# Altium schematic symbol library EwgConnectors.SchLib: 78 symbols
Pins are listed as number, name and electrical type; pins without a type are passive.

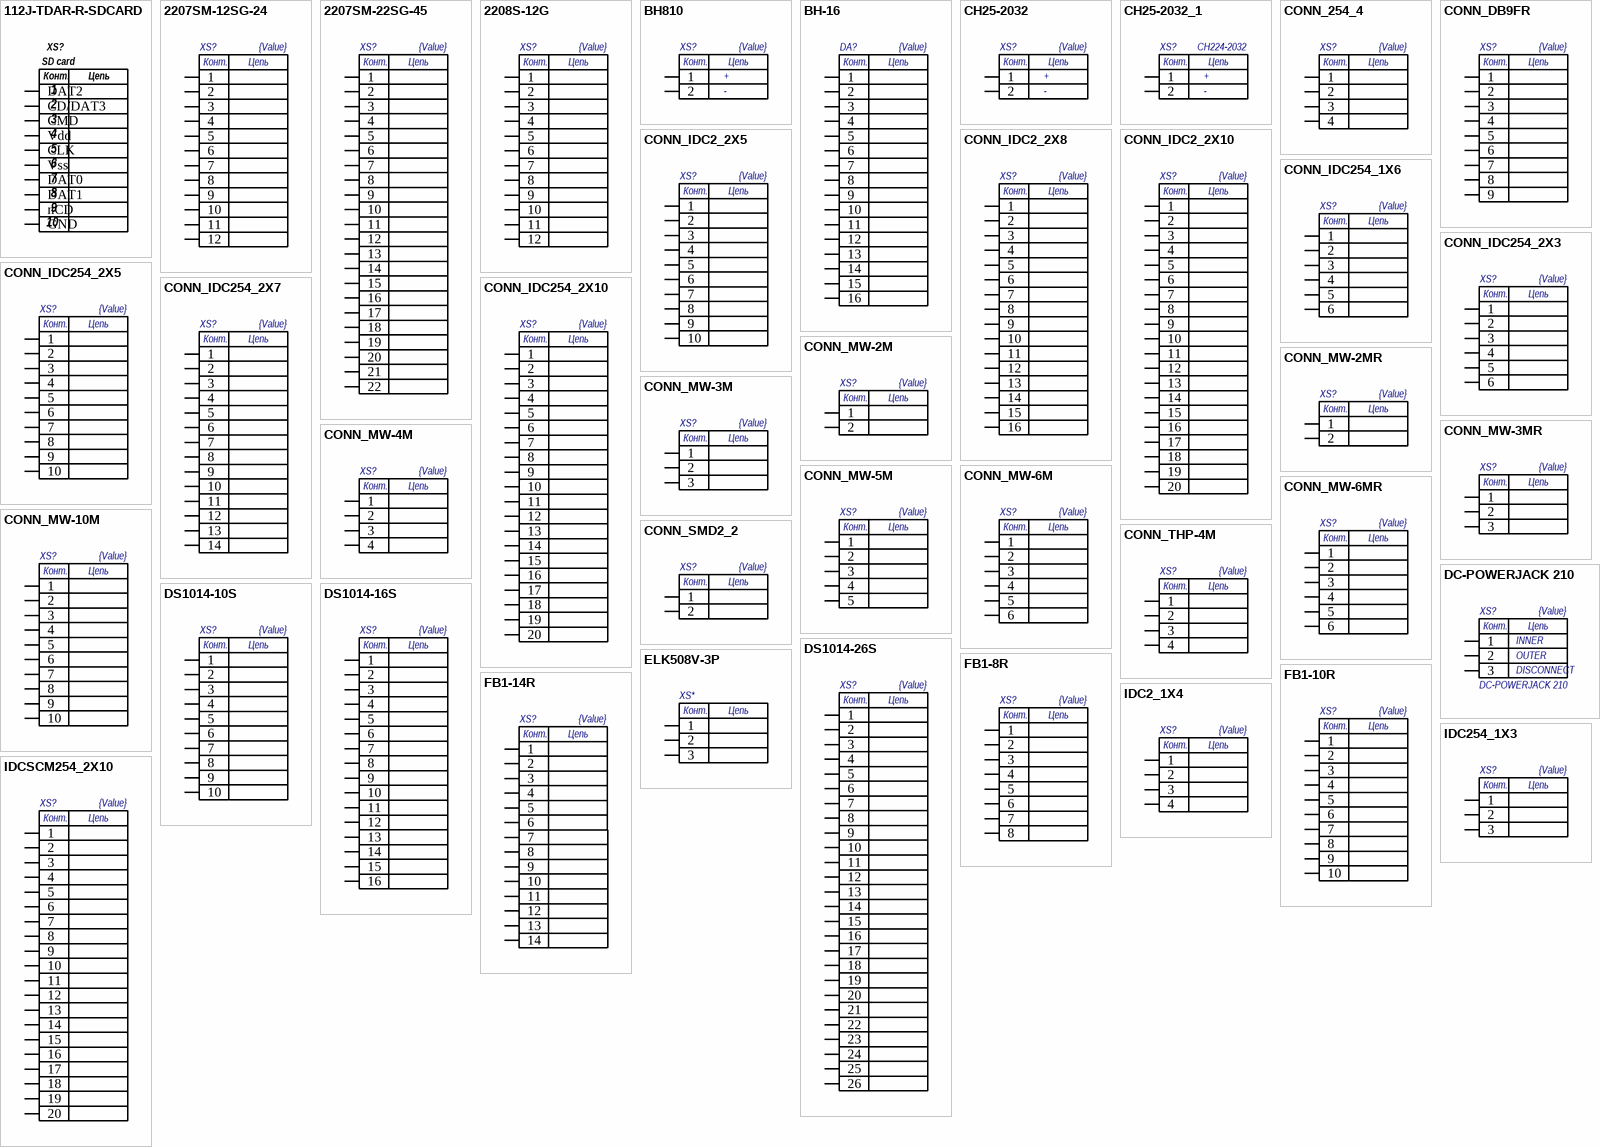
[diagram p0: symbols 112J-TDAR-R-SDCARD to IDCSCM254_2X10]

## 112J-TDAR-R-SDCARD
designator XS?, comment SD card
Слот MMC; Наименование: 112J-TDAR-R-SDCARD; Тип монтажа: Поверхностный; Тип компонента: Слот MMC
footprint 112J-TDAR-R-SDCARD
pins: 1 DAT2, 2 CD/DAT3, 3 CMD, 4 Vdd, 5 CLK, 6 Vss, 7 DAT0, 8 DAT1, 9 nCD, 10 GND
text: Конт.; Цепь

## 2207SM-12SG-24
designator XS?  value {Value}  (hidden comment: *)
Разъем; Наименование: 2207SM-12SG-24; Тип корпуса: шаг 2 мм; Тип монтажа: Поверхностный; Тип компонента: Разъем
footprint 2207SM-12SG-24-REVERSE
pins: 1, 2, 3, 4, 5, 6, 7, 8, 9, 10, 11, 12
text: Конт.; Цепь

## 2207SM-22SG-45
designator XS?  value {Value}  (hidden comment: *)
Разъем; Наименование: 2207SM-22SG-45; Тип корпуса: шаг 2 мм; Тип монтажа: Поверхностный; Тип компонента: Разъем
footprint 2207SM-22SG-45
pins: 1, 2, 3, 4, 5, 6, 7, 8, 9, 10, 11, 12, 13, 14, 15, 16, 17, 18, 19, 20, 21, 22
text: Конт.; Цепь

## 2208S-12G
designator XS?  value {Value}  (hidden comment: *)
Разъем; Наименование: PLD2-2X6; Тип корпуса: шаг 2 мм; Тип монтажа: Штыревой; Тип компонента: Разъем
footprint PLD2-2X6
pins: 1, 2, 3, 4, 5, 6, 7, 8, 9, 10, 11, 12
text: Конт.; Цепь

## BH810
designator XS?  value {Value}  (hidden comment: *)
Разъем; Наименование: BH810; Тип монтажа: Штыревой; Тип компонента: Разъем
footprint BH810
pins: 1, 2
text: Конт.; Цепь; +; -

## BH-16
designator DA?  value {Value}  (hidden comment: *)
Разъем; Наименование: BH-16; Тип монтажа: Штыревой; Тип компонента: Разъем
footprint BH-16
pins: 1, 2, 3, 4, 5, 6, 7, 8, 9, 10, 11, 12, 13, 14, 15, 16
text: Конт.; Цепь

## CH25-2032
designator XS?  value {Value}  (hidden comment: *)
Разъем; Наименование: CH25-2032; Тип монтажа: Штыревой; Тип компонента: Разъем
footprint CH25-2032
pins: 1, 2
text: Конт.; Цепь; +; -

## CH25-2032_1
designator XS?  value CH224-2032  (hidden comment: *)
Разъем; Наименование: Comfortable Electronic, CH224-2032; Примечание: Элемент 2032; Тип монтажа: Штыревой; Тип компонента: Разъем
footprint CH25-2032
pins: 1, 2
text: Конт.; Цепь; +; -

## CONN_254_4
designator XS?  value {Value}  (hidden comment: *)
Разъем; Наименование: 254_4; Тип монтажа: Штыревой; Тип компонента: Разъем
footprint 254_4
pins: 1, 2, 3, 4
text: Конт.; Цепь

## CONN_DB9FR
designator XS?  value {Value}  (hidden comment: *)
Разъем; Наименование: DB9RF; Тип монтажа: Штыревой; Тип компонента: Разъем
footprint CONN_DB9RF
pins: 1, 2, 3, 4, 5, 6, 7, 8, 9
text: Конт.; Цепь

## CONN_IDC2_2X5
designator XS?  value {Value}  (hidden comment: *)
Разъем; Наименование: PLD2-2X5; Тип корпуса: шаг 2 мм; Тип монтажа: Штыревой; Тип компонента: Разъем
footprint PLD2-2X5
pins: 1, 2, 3, 4, 5, 6, 7, 8, 9, 10
text: Конт.; Цепь

## CONN_IDC2_2X8
designator XS?  value {Value}  (hidden comment: *)
Разъем; Наименование: PLD2-2X8; Тип корпуса: шаг 2 мм; Тип монтажа: Штыревой; Тип компонента: Разъем
footprint PLD2-2X8
pins: 1, 2, 3, 4, 5, 6, 7, 8, 9, 10, 11, 12, 13, 14, 15, 16
text: Конт.; Цепь

## CONN_IDC2_2X10
designator XS?  value {Value}  (hidden comment: *)
Разъем; Наименование: PLD2-2X10; Тип корпуса: шаг 2 мм; Тип монтажа: Штыревой; Тип компонента: Разъем
footprint PLD2-2X10
pins: 1, 2, 3, 4, 5, 6, 7, 8, 9, 10, 11, 12, 13, 14, 15, 16, 17, 18, 19, 20
text: Конт.; Цепь

## CONN_IDC254_1X6
designator XS?  value {Value}  (hidden comment: *)
Разъем; Наименование: IDC254_1X6; Тип корпуса: шаг 2,54 мм; Тип монтажа: Штыревой; Тип компонента: Разъем
footprint IDC254_1X6
pins: 1, 2, 3, 4, 5, 6
text: Конт.; Цепь

## CONN_IDC254_2X3
designator XS?  value {Value}  (hidden comment: *)
Разъем; Наименование: IDC254_2X3; Тип корпуса: шаг 2,54 мм; Тип монтажа: Штыревой; Тип компонента: Разъем
footprint IDC254_2X3
pins: 1, 2, 3, 4, 5, 6
text: Конт.; Цепь

## CONN_IDC254_2X5
designator XS?  value {Value}  (hidden comment: *)
Разъем; Наименование: IDC254_2X5; Тип корпуса: шаг 2,54 мм; Тип монтажа: Штыревой; Тип компонента: Разъем
footprint IDC254_2X5
pins: 1, 2, 3, 4, 5, 6, 7, 8, 9, 10
text: Конт.; Цепь

## CONN_IDC254_2X7
designator XS?  value {Value}  (hidden comment: *)
Разъем; Наименование: IDC254_2X7; Тип корпуса: шаг 2,54 мм; Тип монтажа: Штыревой; Тип компонента: Разъем
footprint IDC254_2X7
pins: 1, 2, 3, 4, 5, 6, 7, 8, 9, 10, 11, 12, 13, 14
text: Конт.; Цепь

## CONN_IDC254_2X10
designator XS?  value {Value}  (hidden comment: *)
Разъем; Наименование: IDC254_2X10; Тип корпуса: шаг 2,54 мм; Тип монтажа: Штыревой; Тип компонента: Разъем
footprint IDC254_2X10
pins: 1, 2, 3, 4, 5, 6, 7, 8, 9, 10, 11, 12, 13, 14, 15, 16, 17, 18, 19, 20
text: Конт.; Цепь

## CONN_MW-2M
designator XS?  value {Value}  (hidden comment: *)
Разъем; Наименование: MW-2M; Тип корпуса: шаг 2 мм; Тип монтажа: Штыревой; Тип компонента: Разъем
footprint MW-2M
pins: 1, 2
text: Конт.; Цепь

## CONN_MW-2MR
designator XS?  value {Value}  (hidden comment: *)
Разъем; Наименование: MW-2MR; Тип корпуса: шаг 2 мм; Тип монтажа: Штыревой; Тип компонента: Разъем
footprint MW-2MR
pins: 1, 2
text: Конт.; Цепь

## CONN_MW-3M
designator XS?  value {Value}  (hidden comment: *)
Разъем; Наименование: MW-3M; Тип корпуса: шаг 2 мм; Тип монтажа: Штыревой; Тип компонента: Разъем
footprint MW-3M
pins: 1, 2, 3
text: Конт.; Цепь

## CONN_MW-3MR
designator XS?  value {Value}  (hidden comment: *)
Разъем; Наименование: MW-3MR; Тип корпуса: шаг 2 мм; Тип монтажа: Штыревой; Тип компонента: Разъем
footprint MW-3MR
pins: 1, 2, 3
text: Конт.; Цепь

## CONN_MW-4M
designator XS?  value {Value}  (hidden comment: *)
Разъем; Наименование: MW-4M; Тип корпуса: шаг 2 мм; Тип монтажа: Штыревой; Тип компонента: Разъем
footprint MW-4M
footprint MW-4M FULL
pins: 1, 2, 3, 4
text: Конт.; Цепь

## CONN_MW-5M
designator XS?  value {Value}  (hidden comment: *)
Разъем; Наименование: MW-5M; Тип корпуса: шаг 2 мм; Тип монтажа: Штыревой; Тип компонента: Разъем
footprint MW-5M
footprint MW-5M FULL
pins: 1, 2, 3, 4, 5
text: Конт.; Цепь

## CONN_MW-6M
designator XS?  value {Value}  (hidden comment: *)
Разъем; Наименование: MW-6M; Тип корпуса: шаг 2 мм; Тип монтажа: Штыревой; Тип компонента: Разъем
footprint MW-6M
pins: 1, 2, 3, 4, 5, 6
text: Конт.; Цепь

## CONN_MW-6MR
designator XS?  value {Value}  (hidden comment: *)
Разъем; Наименование: MW-6MR; Тип корпуса: шаг 2 мм; Тип монтажа: Штыревой; Тип компонента: Разъем
footprint MW-6MR
pins: 1, 2, 3, 4, 5, 6
text: Конт.; Цепь

## CONN_MW-10M
designator XS?  value {Value}  (hidden comment: *)
Разъем; Наименование: MW-10M; Тип корпуса: шаг 2 мм; Тип монтажа: Штыревой; Тип компонента: Разъем
footprint MW-10M
pins: 1, 2, 3, 4, 5, 6, 7, 8, 9, 10
text: Конт.; Цепь

## CONN_SMD2_2
designator XS?  value {Value}  (hidden comment: *)
Разъем; Наименование: SMD2_2; Тип корпуса: шаг 2 мм; Тип монтажа: Поверхностный; Тип компонента: Разъем
footprint SMD2_2
pins: 1, 2
text: Конт.; Цепь

## CONN_THP-4M
designator XS?  value {Value}  (hidden comment: *)
Разъем; Наименование: THP-4M; Тип корпуса: шаг 5.08 мм; Тип монтажа: Штыревой; Тип компонента: Разъем
footprint PWR CONN 5.08
pins: 1, 2, 3, 4
text: Конт.; Цепь

## DC-POWERJACK 210
designator XS?, comment {Value}
Разъем; Наименование: DC-POWERJACK 210; Тип корпуса: шаг 2 мм; Тип монтажа: Штыревой; Тип компонента: Разъем; Value: {Value}
footprint DC-POWERJACK 210
pins: 1, 2, 3
text: Конт.; Цепь; INNER; OUTER; DISCONNECT

## DS1014-10S
designator XS?  value {Value}  (hidden comment: *)
Разъем; Наименование: DS1014-10S; Тип корпуса: шаг 2 мм; Тип монтажа: Штыревой; Тип компонента: Разъем
footprint DS1014-10S
pins: 1, 2, 3, 4, 5, 6, 7, 8, 9, 10
text: Конт.; Цепь

## DS1014-16S
designator XS?  value {Value}  (hidden comment: *)
Разъем; Наименование: DS1014-16S; Тип корпуса: шаг 2 мм; Тип монтажа: Штыревой; Тип компонента: Разъем
footprint DS1014-16S
pins: 1, 2, 3, 4, 5, 6, 7, 8, 9, 10, 11, 12, 13, 14, 15, 16
text: Конт.; Цепь

## DS1014-26S
designator XS?  value {Value}  (hidden comment: *)
Разъем; Наименование: DS1014-26S; Тип корпуса: шаг 2 мм; Тип монтажа: Штыревой; Тип компонента: Разъем
footprint DS1014-26S
pins: 1, 2, 3, 4, 5, 6, 7, 8, 9, 10, 11, 12, 13, 14, 15, 16, 17, 18, 19, 20, 21, 22, 23, 24, 25, 26
text: Конт.; Цепь

## ELK508V-3P
designator XS*  (value not drawn)
Клеммник 3х; Наименование: ELK508V-3P; Тип корпуса: шаг 5.08 мм; Тип монтажа: Штыревой; Value: {Value}; Тип компонента: Клеммник 3х
footprint ELK508V-3P (Клеммник)
pins: 1, 2, 3
text: Конт.; Цепь

## FB1-8R
designator XS?  value {Value}  (hidden comment: *)
Разъем; Наименование: FB1-8R; Тип монтажа: Штыревой; Тип компонента: Разъем
footprint FB1-8R
pins: 1, 2, 3, 4, 5, 6, 7, 8
text: Конт.; Цепь

## FB1-10R
designator XS?  value {Value}  (hidden comment: *)
FB1-10R
footprint FB1-10R
pins: 1, 2, 3, 4, 5, 6, 7, 8, 9, 10
text: Конт.; Цепь

## FB1-14R
designator XS?  value {Value}  (hidden comment: *)
FB1-14R
footprint FB1-14R
pins: 1, 2, 3, 4, 5, 6, 7, 8, 9, 10, 11, 12, 13, 14
text: Конт.; Цепь

## IDC2_1X4
designator XS?  value {Value}  (hidden comment: *)
Разъем; Наименование: IDC2_1X4; Тип корпуса: шаг 2 мм; Тип монтажа: Штыревой; Тип компонента: Разъем
footprint IDC2_1X4
pins: 1, 2, 3, 4
text: Конт.; Цепь

## IDC254_1X3
designator XS?  value {Value}  (hidden comment: *)
Разъем; Наименование: IDC254_1X3; Тип корпуса: шаг 2,54 мм; Тип монтажа: Штыревой; Тип компонента: Разъем
footprint IDC254_1X3
pins: 1, 2, 3
text: Конт.; Цепь

## IDCSCM254_2X10
designator XS?  value {Value}  (hidden comment: *)
Разъем; Наименование: IDCSCM254_2X10; Тип корпуса: шаг 2,54 мм; Тип монтажа: Штыревой; Тип компонента: Разъем
footprint IDCSCM254_2X10
pins: 1, 2, 3, 4, 5, 6, 7, 8, 9, 10, 11, 12, 13, 14, 15, 16, 17, 18, 19, 20
text: Конт.; Цепь

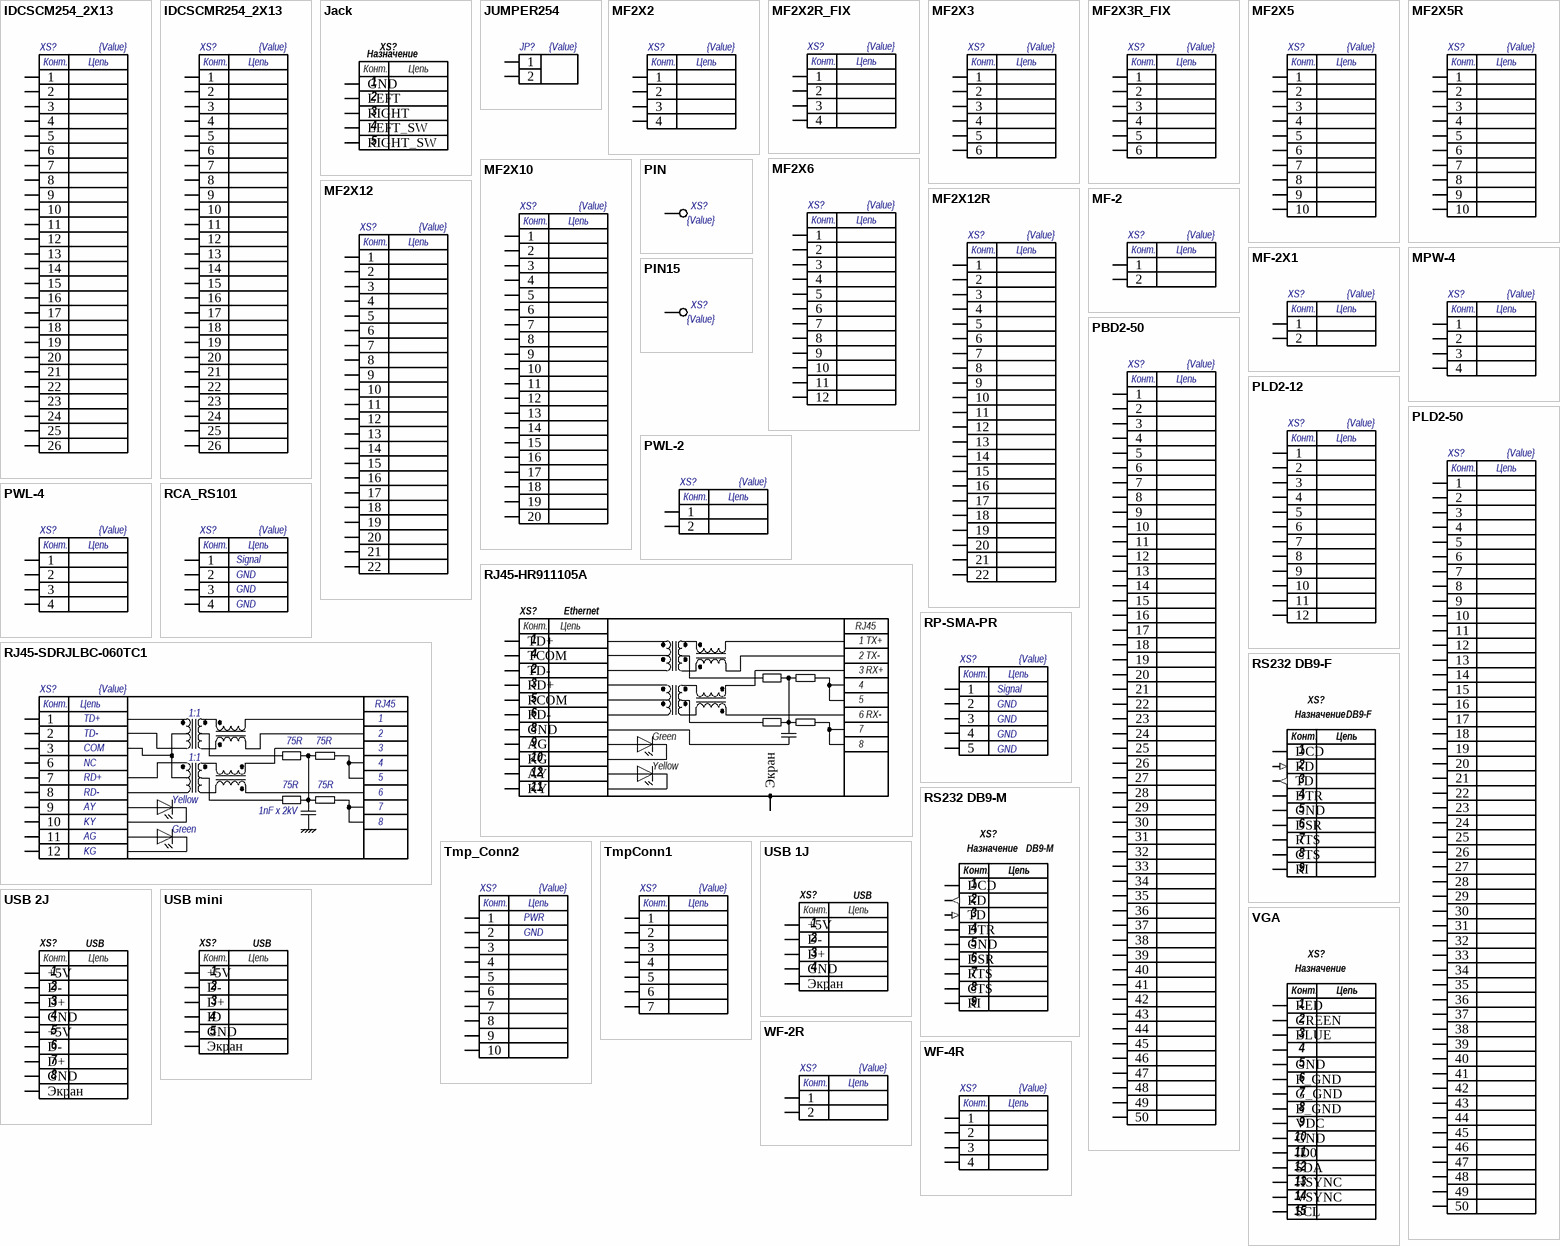
[diagram p1: symbols IDCSCM254_2X13 to WF-4R]

## IDCSCM254_2X13
designator XS?  value {Value}  (hidden comment: *)
Разъем; Наименование: IDCSCM254_2X13; Тип корпуса: шаг 2,54 мм; Тип монтажа: Штыревой; Тип компонента: Разъем
footprint IDCSCM254_2X13
pins: 1, 2, 3, 4, 5, 6, 7, 8, 9, 10, 11, 12, 13, 14, 15, 16, 17, 18, 19, 20, 21, 22, 23, 24, 25, 26
text: Конт.; Цепь

## IDCSCMR254_2X13
designator XS?  value {Value}  (hidden comment: *)
Разъем; Наименование: IDCSCMR254_2X13; Тип корпуса: шаг 2,54 мм; Тип монтажа: Штыревой; Тип компонента: Разъем
footprint IDCSCMR254_2X13
pins: 1, 2, 3, 4, 5, 6, 7, 8, 9, 10, 11, 12, 13, 14, 15, 16, 17, 18, 19, 20, 21, 22, 23, 24, 25, 26
text: Конт.; Цепь

## Jack
designator XS?, comment Назначение
Разъем
footprint Jack 3.5
pins: 1 GND, 2 LEFT, 3 RIGHT, 4 LEFT_SW, 5 RIGHT_SW
text: Конт.; Цепь

## JUMPER254
designator JP?  value {Value}  (hidden comment: *)
Разъем; Наименование: IDC254_1X2; Тип корпуса: шаг 2,54 мм; Тип монтажа: Штыревой; Тип компонента: Разъем
footprint IDC254_1X2
pins: 1, 2

## MF2X2
designator XS?  value {Value}  (hidden comment: *)
Разъем; Наименование: MiniFit 2X2; Тип корпуса: шаг 4,2 мм; Тип монтажа: Штыревой; Тип компонента: Разъем
footprint MF2X2
footprint MF2X2-Full
pins: 1, 2, 3, 4
text: Конт.; Цепь

## MF2X2R_FIX
designator XS?  value {Value}  (hidden comment: *)
Разъем; Наименование: MiniFit R_FIX; Тип корпуса: шаг 4,2 мм; Тип монтажа: Штыревой; Тип компонента: Разъем
footprint MF2X2R_FIX
pins: 1, 2, 3, 4
text: Конт.; Цепь

## MF2X3
designator XS?  value {Value}  (hidden comment: *)
Разъем; Наименование: MiniFit 2X3; Тип корпуса: шаг 4,2 мм; Тип монтажа: Штыревой; Тип компонента: Разъем
footprint MF2X3
pins: 1, 2, 3, 4, 5, 6
text: Конт.; Цепь

## MF2X3R_FIX
designator XS?  value {Value}  (hidden comment: *)
Разъем; Наименование: MiniFit 2X3R_FIX; Тип корпуса: шаг 4,2 мм; Тип монтажа: Штыревой; Тип компонента: Разъем
footprint MF2X3R_FIX
footprint MF2X3R_FIX FULL
pins: 1, 2, 3, 4, 5, 6
text: Конт.; Цепь

## MF2X5
designator XS?  value {Value}  (hidden comment: *)
Разъем; Наименование: MiniFit 2X5; Тип корпуса: шаг 4,2 мм; Тип монтажа: Штыревой; Тип компонента: Разъем
footprint MF2X5
pins: 1, 2, 3, 4, 5, 6, 7, 8, 9, 10
text: Конт.; Цепь

## MF2X5R
designator XS?  value {Value}  (hidden comment: *)
Разъем; Наименование: MiniFit 2X5R; Тип корпуса: шаг 4,2 мм; Тип монтажа: Штыревой; Тип компонента: Разъем
footprint MF2X5R
pins: 1, 2, 3, 4, 5, 6, 7, 8, 9, 10
text: Конт.; Цепь

## MF2X6
designator XS?  value {Value}  (hidden comment: *)
Разъем; Наименование: MiniFit 2X6; Тип корпуса: шаг 4,2 мм; Тип монтажа: Штыревой; Тип компонента: Разъем
footprint MF2X6
pins: 1, 2, 3, 4, 5, 6, 7, 8, 9, 10, 11, 12
text: Конт.; Цепь

## MF2X10
designator XS?  value {Value}  (hidden comment: *)
Разъем; Наименование: MiniFit 2X10; Тип корпуса: шаг 4,2 мм; Тип монтажа: Штыревой; Тип компонента: Разъем
footprint MF2X10
pins: 1, 2, 3, 4, 5, 6, 7, 8, 9, 10, 11, 12, 13, 14, 15, 16, 17, 18, 19, 20
text: Конт.; Цепь

## MF2X12
designator XS?  value {Value}  (hidden comment: *)
Разъем; Наименование: MiniFit 2X12; Тип корпуса: шаг 4,2 мм; Тип монтажа: Штыревой; Тип компонента: Разъем
footprint MF2X12
pins: 1, 2, 3, 4, 5, 6, 7, 8, 9, 10, 11, 12, 13, 14, 15, 16, 17, 18, 19, 20, 21, 22
text: Конт.; Цепь

## MF2X12R
designator XS?  value {Value}  (hidden comment: *)
Разъем; Наименование: MiniFit 2X12R; Тип корпуса: шаг 4,2 мм; Тип монтажа: Штыревой; Тип компонента: Разъем
footprint MF2X12R
pins: 1, 2, 3, 4, 5, 6, 7, 8, 9, 10, 11, 12, 13, 14, 15, 16, 17, 18, 19, 20, 21, 22
text: Конт.; Цепь

## MF-2
designator XS?  value {Value}  (hidden comment: *)
Разъем; Наименование: MF-2; Тип монтажа: Штыревой; Тип компонента: Разъем
footprint MF-2
pins: 1, 2
text: Конт.; Цепь

## MF-2X1
designator XS?  value {Value}  (hidden comment: *)
Разъем; Наименование: MiniFit -2X1; Тип корпуса: шаг 4,2 мм; Тип монтажа: Штыревой; Тип компонента: Разъем
footprint MF-2X1
pins: 1, 2
text: Конт.; Цепь

## MPW-4
designator XS?  value {Value}  (hidden comment: *)
Разъем; Наименование: MPW-4; Тип монтажа: Штыревой; Тип компонента: Разъем
footprint MPW-4
pins: 1, 2, 3, 4
text: Конт.; Цепь

## PBD2-50
designator XS?  value {Value}  (hidden comment: *)
Разъем; Наименование: PBD2-50; Тип монтажа: Штыревой; Тип компонента: Разъем
footprint PBD2-50 (PLD2-50)
pins: 1, 2, 3, 4, 5, 6, 7, 8, 9, 10, 11, 12, 13, 14, 15, 16, 17, 18, 19, 20, 21, 22, 23, 24, 25, 26, 27, 28, 29, 30, 31, 32, 33, 34, 35, 36, 37, 38, 39, 40, 41, 42, 43, 44, 45, 46, 47, 48, 49, 50
text: Конт.; Цепь

## PIN
designator XS?  value {Value}  (hidden comment: *)
Наименование: PIN; Тип монтажа: Штыревой
footprint PIN
pins: 1

## PIN15
designator XS?  value {Value}  (hidden comment: *)
Наименование: PIN15; Тип монтажа: Штыревой
footprint PIN15
pins: 1

## PLD2-12
designator XS?  value {Value}  (hidden comment: *)
Разъем; Наименование: PLD2-12; Тип корпуса: шаг 4,2 мм; Тип монтажа: Штыревой; Тип компонента: Разъем
footprint PLD2-2X6
pins: 1, 2, 3, 4, 5, 6, 7, 8, 9, 10, 11, 12
text: Конт.; Цепь

## PLD2-50
designator XS?  value {Value}  (hidden comment: *)
Разъем; Наименование: PLD2-50; Тип монтажа: Штыревой; Тип компонента: Разъем
footprint PLD2-50
pins: 1, 2, 3, 4, 5, 6, 7, 8, 9, 10, 11, 12, 13, 14, 15, 16, 17, 18, 19, 20, 21, 22, 23, 24, 25, 26, 27, 28, 29, 30, 31, 32, 33, 34, 35, 36, 37, 38, 39, 40, 41, 42, 43, 44, 45, 46, 47, 48, 49, 50
text: Конт.; Цепь

## PWL-2
designator XS?  value {Value}  (hidden comment: *)
Разъем; Наименование: PWL-2; Тип монтажа: Штыревой; Тип компонента: Разъем
footprint PWL-2
pins: 1, 2
text: Конт.; Цепь

## PWL-4
designator XS?  value {Value}  (hidden comment: *)
Разъем; Наименование: PWL-4; Тип монтажа: Штыревой; Тип компонента: Разъем
footprint PWL-4
pins: 1, 2, 3, 4
text: Конт.; Цепь

## RCA_RS101
designator XS?  value {Value}  (hidden comment: *)
Разъем; Наименование: RCA RS101; Тип монтажа: Штыревой; Тип компонента: Разъем
footprint RCA RS101
pins: 1, 2, 3, 4
text: Конт.; Цепь; Signal; GND

## RJ45-HR911105A
designator XS?, comment Ethernet
Разъем RJ45 с трансформатором и LED; Наименование: HR911105A; Производитель: Hanrun; Тип монтажа: Штыревой; Тип компонента: Разъем RJ45 с трансформатором и LED
footprint HR911105A
pins: 0 Экран, 1 TD+, 2 TD-, 3 RD+, 4 TCOM, 5 RCOM, 6 RD-, 8 GND, 9 AG, 10 KG, 11 KY, 12 AY
text: Конт.; Цепь; RJ45; 1 TX+; 2 TX-; 3 RX+; 6 RX-; 7; Green; Yellow

## RJ45-SDRJLBC-060TC1
designator XS?  value {Value}  (hidden comment: *)
Разъем; Наименование: JAIMAG, SDRJLBC-060TC1; Тип монтажа: Штыревой; Тип компонента: Разъем
footprint RJLBC-060TC1
pins: 1, 2, 3, 6, 7, 8, 9, 10, 11, 12
text: Конт.; Цепь; RJ45; 1:1; TD+; TD-; 75R; COM; NC; 4; RD+; 5; RD-; Yellow; AY; 1nF x 2kV; KY; Green; AG; KG

## RP-SMA-PR
designator XS?  value {Value}  (hidden comment: *)
Разъем; Наименование: RP-SMA; Тип монтажа: Штыревой; Тип компонента: Разъем
footprint RP-SMA
pins: 1, 2, 3, 4, 5
text: Конт.; Цепь; Signal; GND

## RS232 DB9-F
designator XS?, comment Назначение  Тип корпуса: DB9-F
Разъем RS232
footprint DB9-F
pins: 1 DCD, 2 RD (in), 3 TD (out), 4 DTR, 5 GND, 6 DSR, 7 RTS, 8 CTS, 9 RI
text: Конт.; Цепь

## RS232 DB9-M
designator XS?, comment Назначение  Тип корпуса: DB9-M
Разъем RS232
footprint DB9-M
pins: 1 DCD, 2 RD (out), 3 TD (in), 4 DTR, 5 GND, 6 DSR, 7 RTS, 8 CTS, 9 RI
text: Конт.; Цепь

## Tmp_Conn2
designator XS?  value {Value}  (hidden comment: *)
Наименование: Tmp-Conn2; Тип монтажа: Штыревой
footprint Tmp-Conn2
pins: 1, 2, 3, 4, 5, 6, 7, 8, 9, 10
text: Конт.; Цепь; PWR; GND

## TmpConn1
designator XS?  value {Value}  (hidden comment: *)
Наименование: Tmp_Conn1; Тип монтажа: Штыревой
footprint Tmp_Conn1
pins: 1, 2, 3, 4, 5, 6, 7
text: Конт.; Цепь

## USB 1J
designator XS?, comment USB
Разъем USB; Тип монтажа: Штыревой; Тип компонента: Разъем USB
footprint USB-A 1J
footprint USB-B 1J
pins: 0 Экран, 1 +5V, 2 D-, 3 D+, 4 GND
text: Конт.; Цепь

## USB 2J
designator XS?, comment USB
Разъем USB; Тип монтажа: Штыревой; Тип компонента: Разъем USB
footprint USB-A 2J
pins: 0 Экран, 1 +5V, 2 D-, 3 D+, 4 GND, 5 +5V, 6 D-, 7 D+, 8 GND
text: Конт.; Цепь

## USB mini
designator XS?, comment USB
Разъем USB; Тип монтажа: Штыревой; Тип компонента: Разъем USB
footprint USBmini
pins: 0 Экран, 1 +5V, 2 D-, 3 D+, 4 ID, 5 GND
text: Конт.; Цепь

## VGA
designator XS?, comment Назначение
Разъем VGA
footprint VGA
pins: 1 RED, 2 GREEN, 3 BLUE, 4, 5 GND, 6 R_GND, 7 G_GND, 8 B_GND, 9 VDC, 10 GND, 11 ID0, 12 SDA, 13 HSYNC, 14 VSYNC, 15 SCL
text: Конт.; Цепь

## WF-2R
designator XS?  value {Value}  (hidden comment: *)
Разъем; Наименование: WF-2R; Тип монтажа: Штыревой; Тип компонента: Разъем
footprint WF-2R
pins: 1, 2
text: Конт.; Цепь

## WF-4R
designator XS?  value {Value}  (hidden comment: *)
Разъем; Наименование: WF-4R; Тип монтажа: Штыревой; Тип компонента: Разъем
footprint WF-4R
pins: 1, 2, 3, 4
text: Конт.; Цепь